# EAGLE library part GP2Y1010AU0F (library brett)
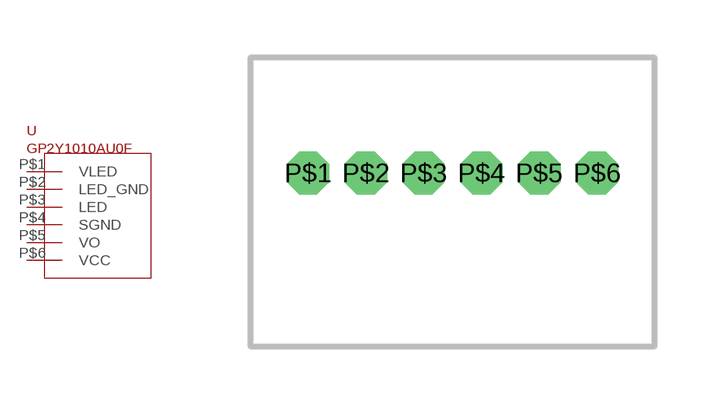
[diagram p8: symbol with the pads of B6B-ZR-SM4-TF; footprint B6B-ZR-SM4-TF]

Designator prefix -

## GP2Y1010AU0F  [B6B-ZR-SM4-TF]
P$1  VLED
P$2  LED_GND
P$3  LED
P$4  SGND
P$5  VO
P$6  VCC

## Footprint B6B-ZR-SM4-TF (pad centres in mm)
drill 0.6 octagon: P$1 3,1.5; P$2 4.5,1.5; P$3 6,1.5; P$4 7.5,1.5; P$5 9,1.5; P$6 10.5,1.5